# Altium schematic symbol library SCH - POWER - SWITCHMODE - TI TPS56100_PWP_28.SchLib: 1 symbol
Pins are listed as number, name and electrical type; pins without a type are passive.

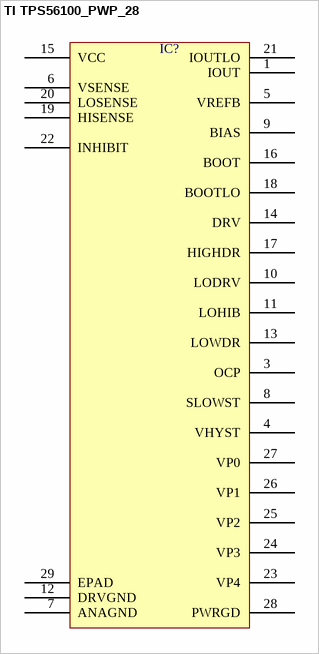
[diagram p0: symbol TI TPS56100_PWP_28]

## TI TPS56100_PWP_28
designator IC?  (value not drawn)
pins: 1 IOUT, 3 OCP, 4 VHYST, 5 VREFB, 6 VSENSE, 7 ANAGND, 8 SLOWST, 9 BIAS, 10 LODRV, 11 LOHIB, 12 DRVGND, 13 LOWDR, 14 DRV, 15 VCC, 16 BOOT, 17 HIGHDR, 18 BOOTLO, 19 HISENSE, 20 LOSENSE, 21 IOUTLO, 22 INHIBIT, 23 VP4, 24 VP3, 25 VP2, 26 VP1, 27 VP0, 28 PWRGD, 29 EPAD